# Altium schematic symbol library Term,Pad,3Pos,SMD.Schlib: 1 symbol
Pins are listed as number, name and electrical type; pins without a type are passive.

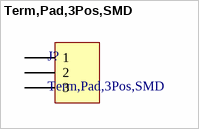
[diagram p0: symbol Term,Pad,3Pos,SMD]

## Term,Pad,3Pos,SMD
designator J?
SMD pads for soldering wires with strain relief
pins: 1, 2, 3